# Altium schematic symbol library HT7550.Schlib: 1 symbol
Pins are listed as number, name and electrical type; pins without a type are passive.

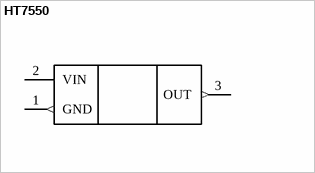
[diagram p0: symbol HT7550]

## HT7550
designator DD?
pins: 1 GND (out), 2 VIN (power), 3 OUT (out)